# Altium footprint library WE-LAN 10G.PcbLib: 13 footprints
Each footprint in its own frame and in the unit in brackets; x right, y up, seen from the top. Pads: shape width x height; smd on the part's side, far side on the other; paste and mask are expansions set on the pad; w line width, h text height; cw(c..) or ccw(c..) is an arc to the next point about the centre after c.
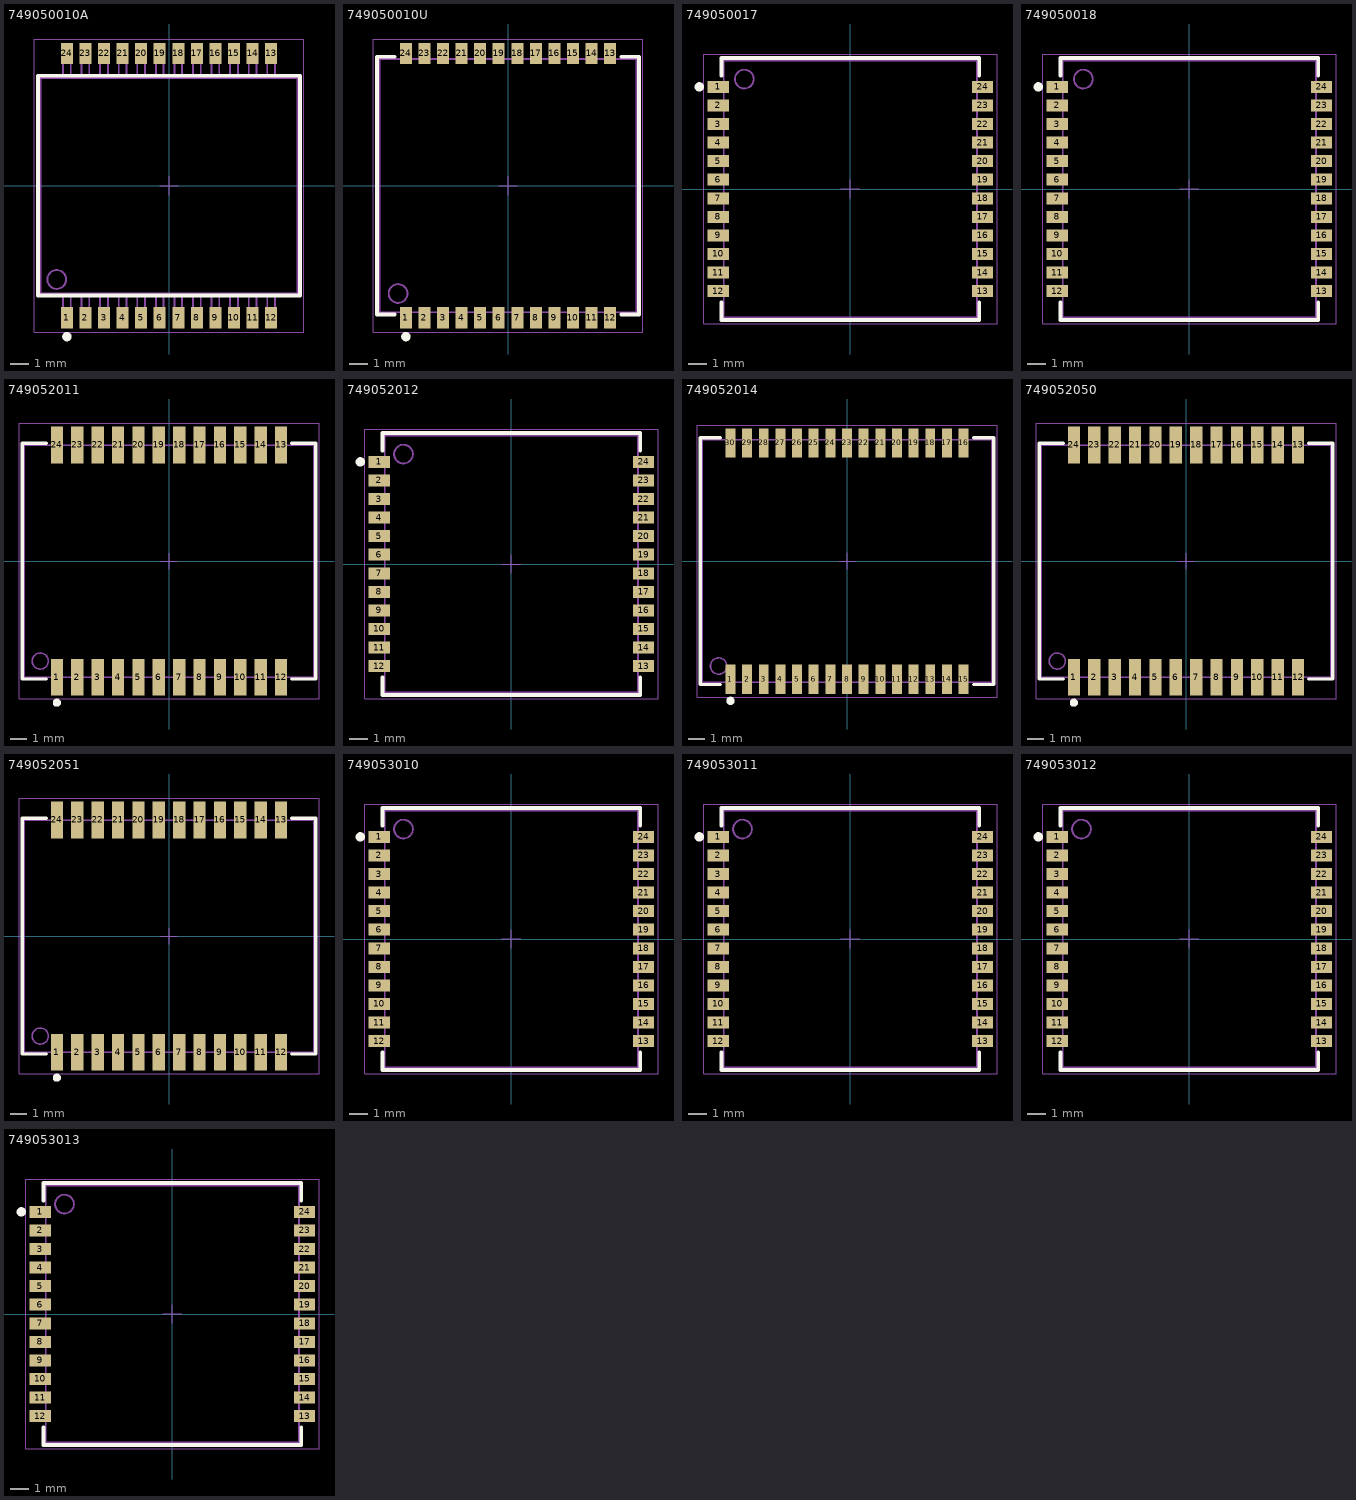
[diagram p0: the footprints below, top view; thin cyan lines are the x and y axes]

## 749050010A [mm] "LAN-Transformer 10G, body 13.97x13.97mm, 24-leads"
height 6.6
pads (24):
  rect 0.64x1.14 smd: 1(-5.445,-7.05) 2(-4.455,-7.05) 3(-3.465,-7.05) 4(-2.475,-7.05) 5(-1.485,-7.05) 6(-0.495,-7.05) 7(0.495,-7.05) 8(1.485,-7.05) 9(2.475,-7.05) 10(3.465,-7.05) 11(4.455,-7.05) 12(5.445,-7.05) 13(5.445,7.05) 14(4.455,7.05) 15(3.465,7.05) 16(2.475,7.05) 17(1.485,7.05) 18(0.495,7.05) 19(-0.495,7.05) 20(-1.485,7.05) 21(-2.475,7.05) 22(-3.465,7.05) 23(-4.455,7.05) 24(-5.445,7.05)
Top Overlay:
  circle w0.25: c-5.445,-8.05 r0.125
  lines w0.2: -6.985,-5.86 -6.985,5.86 6.985,5.86 6.985,-5.86 -6.985,-5.86
Top Designator:
  text ".Designator" at -7.498,-0.5 h1.5
Top Component Outline:
  circle w0.1: c-5.985,-5 r0.5
  lines w0.1: -5.65,-5.735 -5.65,-7.43 -5.24,-7.43 -5.24,-5.735 ; -5.65,5.735 -5.65,7.43 -5.24,7.43 -5.24,5.735 ; -4.66,-5.735 -4.66,-7.43 -4.25,-7.43 -4.25,-5.735 ; -4.66,5.735 -4.66,7.43 -4.25,7.43 -4.25,5.735 ; -3.67,-5.735 -3.67,-7.43 -3.26,-7.43 -3.26,-5.735 ; -3.67,5.735 -3.67,7.43 -3.26,7.43 -3.26,5.735 ; -2.68,-5.735 -2.68,-7.43 -2.27,-7.43 -2.27,-5.735 ; -2.68,5.735 -2.68,7.43 -2.27,7.43 -2.27,5.735 ; -1.69,-5.735 -1.69,-7.43 -1.28,-7.43 -1.28,-5.735 ; -1.69,5.735 -1.69,7.43 -1.28,7.43 -1.28,5.735 ; -0.7,-5.735 -0.7,-7.43 -0.29,-7.43 -0.29,-5.735 ; -0.7,5.735 -0.7,7.43 -0.29,7.43 -0.29,5.735 ; 0.29,-5.735 0.29,-7.43 0.7,-7.43 0.7,-5.735 ; 0.29,5.735 0.29,7.43 0.7,7.43 0.7,5.735 ; 1.28,-5.735 1.28,-7.43 1.69,-7.43 1.69,-5.735 ; 1.28,5.735 1.28,7.43 1.69,7.43 1.69,5.735 ; 2.27,-5.735 2.27,-7.43 2.68,-7.43 2.68,-5.735 ; 2.27,5.735 2.27,7.43 2.68,7.43 2.68,5.735 ; 3.26,-5.735 3.26,-7.43 3.67,-7.43 3.67,-5.735 ; 3.26,5.735 3.26,7.43 3.67,7.43 3.67,5.735 ; 4.25,-5.735 4.25,-7.43 4.66,-7.43 4.66,-5.735 ; 4.25,5.735 4.25,7.43 4.66,7.43 4.66,5.735 ; 5.24,-5.735 5.24,-7.43 5.65,-7.43 5.65,-5.735 ; 5.24,5.735 5.24,7.43 5.65,7.43 5.65,5.735 ; -6.86,-5.735 -6.86,5.735 6.86,5.735 6.86,-5.735 -6.86,-5.735
Top Courtyard:
  lines w0.05: -0.5,0 0.5,0 ; 0,-0.5 0,0.5 ; -7.185,-7.82 -7.185,7.82 7.185,7.82 7.185,-7.82 -7.185,-7.82
3D body "749050010A.stp": height 6.15, standoff 0, extent -6.985,-7.43 6.985,7.43

## 749050010U [mm] "LAN-Transformer 10G, body 13.97x13.97mm, 24-leads"
height 6.6
pads (24):
  rect 0.64x1.14 smd: 1(-5.445,-7.05) 2(-4.455,-7.05) 3(-3.465,-7.05) 4(-2.475,-7.05) 5(-1.485,-7.05) 6(-0.495,-7.05) 7(0.495,-7.05) 8(1.485,-7.05) 9(2.475,-7.05) 10(3.465,-7.05) 11(4.455,-7.05) 12(5.445,-7.05) 13(5.445,7.05) 14(4.455,7.05) 15(3.465,7.05) 16(2.475,7.05) 17(1.485,7.05) 18(0.495,7.05) 19(-0.495,7.05) 20(-1.485,7.05) 21(-2.475,7.05) 22(-3.465,7.05) 23(-4.455,7.05) 24(-5.445,7.05)
Top Overlay:
  circle w0.25: c-5.445,-8.05 r0.125
  lines w0.2: -6.05,-6.875 -6.985,-6.875 -6.985,6.875 -6.05,6.875 ; 6.05,-6.875 6.985,-6.875 6.985,6.875 6.05,6.875
Top Designator:
  text ".Designator" at -7.498,-0.5 h1.5
Top Component Outline:
  circle w0.1: c-5.86,-5.75 r0.5
  lines w0.1: -5.65,-6.75 -5.65,-7.43 -5.24,-7.43 -5.24,-6.75 ; -5.65,6.75 -5.65,7.43 -5.24,7.43 -5.24,6.75 ; -4.66,-6.75 -4.66,-7.43 -4.25,-7.43 -4.25,-6.75 ; -4.66,6.75 -4.66,7.43 -4.25,7.43 -4.25,6.75 ; -3.67,-6.75 -3.67,-7.43 -3.26,-7.43 -3.26,-6.75 ; -3.67,6.75 -3.67,7.43 -3.26,7.43 -3.26,6.75 ; -2.68,-6.75 -2.68,-7.43 -2.27,-7.43 -2.27,-6.75 ; -2.68,6.75 -2.68,7.43 -2.27,7.43 -2.27,6.75 ; -1.69,-6.75 -1.69,-7.43 -1.28,-7.43 -1.28,-6.75 ; -1.69,6.75 -1.69,7.43 -1.28,7.43 -1.28,6.75 ; -0.7,-6.75 -0.7,-7.43 -0.29,-7.43 -0.29,-6.75 ; -0.7,6.75 -0.7,7.43 -0.29,7.43 -0.29,6.75 ; 0.29,-6.75 0.29,-7.43 0.7,-7.43 0.7,-6.75 ; 0.29,6.75 0.29,7.43 0.7,7.43 0.7,6.75 ; 1.28,-6.75 1.28,-7.43 1.69,-7.43 1.69,-6.75 ; 1.28,6.75 1.28,7.43 1.69,7.43 1.69,6.75 ; 2.27,-6.75 2.27,-7.43 2.68,-7.43 2.68,-6.75 ; 2.27,6.75 2.27,7.43 2.68,7.43 2.68,6.75 ; 3.26,-6.75 3.26,-7.43 3.67,-7.43 3.67,-6.75 ; 3.26,6.75 3.26,7.43 3.67,7.43 3.67,6.75 ; 4.25,-6.75 4.25,-7.43 4.66,-7.43 4.66,-6.75 ; 4.25,6.75 4.25,7.43 4.66,7.43 4.66,6.75 ; 5.24,-6.75 5.24,-7.43 5.65,-7.43 5.65,-6.75 ; 5.24,6.75 5.24,7.43 5.65,7.43 5.65,6.75 ; -6.86,-6.75 6.86,-6.75 6.86,6.75 -6.86,6.75 -6.86,-6.75
Top Courtyard:
  lines w0.05: -0.5,0 0.5,0 ; 0,-0.5 0,0.5 ; -7.185,-7.82 7.185,-7.82 7.185,7.82 -7.185,7.82 -7.185,-7.82
3D body "749050010U.stp": height 6.6, standoff 0, extent -6.985,-7.41 6.985,7.41

## 749050017 [mm] "LAN-Transformer 10G, body 13.5x13.72mm, 24-leads"
height 6.6
pads (24):
  rect 1.14x0.64 smd: 1(-7.05,5.445) 2(-7.05,4.455) 3(-7.05,3.465) 4(-7.05,2.475) 5(-7.05,1.485) 6(-7.05,0.495) 7(-7.05,-0.495) 8(-7.05,-1.485) 9(-7.05,-2.475) 10(-7.05,-3.465) 11(-7.05,-4.455) 12(-7.05,-5.445) 13(7.05,-5.445) 14(7.05,-4.455) 15(7.05,-3.465) 16(7.05,-2.475) 17(7.05,-1.485) 18(7.05,-0.495) 19(7.05,0.495) 20(7.05,1.485) 21(7.05,2.475) 22(7.05,3.465) 23(7.05,4.455) 24(7.05,5.445)
Top Overlay:
  circle w0.25: c-8.05,5.445 r0.125
  lines w0.2: -6.875,-6.05 -6.875,-6.985 6.875,-6.985 6.875,-6.05 ; -6.875,6.05 -6.875,6.985 6.875,6.985 6.875,6.05
Top Designator:
  text ".Designator" at -7.498,-0.5 h1.5
Top Component Outline:
  circle w0.1: c-5.65,5.86 r0.5
  lines w0.1: -6.75,-5.65 -7.43,-5.65 -7.43,-5.24 -6.75,-5.24 ; -6.75,-4.66 -7.43,-4.66 -7.43,-4.25 -6.75,-4.25 ; -6.75,-3.67 -7.43,-3.67 -7.43,-3.26 -6.75,-3.26 ; -6.75,-2.68 -7.43,-2.68 -7.43,-2.27 -6.75,-2.27 ; -6.75,-1.69 -7.43,-1.69 -7.43,-1.28 -6.75,-1.28 ; -6.75,-0.7 -7.43,-0.7 -7.43,-0.29 -6.75,-0.29 ; -6.75,0.29 -7.43,0.29 -7.43,0.7 -6.75,0.7 ; -6.75,1.28 -7.43,1.28 -7.43,1.69 -6.75,1.69 ; -6.75,2.27 -7.43,2.27 -7.43,2.68 -6.75,2.68 ; -6.75,3.26 -7.43,3.26 -7.43,3.67 -6.75,3.67 ; -6.75,4.25 -7.43,4.25 -7.43,4.66 -6.75,4.66 ; -6.75,5.24 -7.43,5.24 -7.43,5.65 -6.75,5.65 ; 6.75,-5.65 7.43,-5.65 7.43,-5.24 6.75,-5.24 ; 6.75,-4.66 7.43,-4.66 7.43,-4.25 6.75,-4.25 ; 6.75,-3.67 7.43,-3.67 7.43,-3.26 6.75,-3.26 ; 6.75,-2.68 7.43,-2.68 7.43,-2.27 6.75,-2.27 ; 6.75,-1.69 7.43,-1.69 7.43,-1.28 6.75,-1.28 ; 6.75,-0.7 7.43,-0.7 7.43,-0.29 6.75,-0.29 ; 6.75,0.29 7.43,0.29 7.43,0.7 6.75,0.7 ; 6.75,1.28 7.43,1.28 7.43,1.69 6.75,1.69 ; 6.75,2.27 7.43,2.27 7.43,2.68 6.75,2.68 ; 6.75,3.26 7.43,3.26 7.43,3.67 6.75,3.67 ; 6.75,4.25 7.43,4.25 7.43,4.66 6.75,4.66 ; 6.75,5.24 7.43,5.24 7.43,5.65 6.75,5.65 ; -6.75,-6.86 -6.75,6.86 6.75,6.86 6.75,-6.86 -6.75,-6.86
Top Courtyard:
  lines w0.05: -0.5,0 0.5,0 ; 0,-0.5 0,0.5 ; -7.82,-7.185 -7.82,7.185 7.82,7.185 7.82,-7.185 -7.82,-7.185
3D body "749050017.stp": height 6.6, standoff 0, extent -7.605,-6.985 7.505,6.985

## 749050018 [mm] "LAN-Transformer 10G, body 13.5x13.72mm, 24-leads"
height 6.6
pads (24):
  rect 1.14x0.64 smd: 1(-7.05,5.445) 2(-7.05,4.455) 3(-7.05,3.465) 4(-7.05,2.475) 5(-7.05,1.485) 6(-7.05,0.495) 7(-7.05,-0.495) 8(-7.05,-1.485) 9(-7.05,-2.475) 10(-7.05,-3.465) 11(-7.05,-4.455) 12(-7.05,-5.445) 13(7.05,-5.445) 14(7.05,-4.455) 15(7.05,-3.465) 16(7.05,-2.475) 17(7.05,-1.485) 18(7.05,-0.495) 19(7.05,0.495) 20(7.05,1.485) 21(7.05,2.475) 22(7.05,3.465) 23(7.05,4.455) 24(7.05,5.445)
Top Overlay:
  circle w0.25: c-8.05,5.445 r0.125
  lines w0.2: -6.875,-6.05 -6.875,-6.985 6.875,-6.985 6.875,-6.05 ; -6.875,6.05 -6.875,6.985 6.875,6.985 6.875,6.05
Top Designator:
  text ".Designator" at -7.498,-0.5 h1.5
Top Component Outline:
  circle w0.1: c-5.65,5.86 r0.5
  lines w0.1: -6.75,-5.65 -7.43,-5.65 -7.43,-5.24 -6.75,-5.24 ; -6.75,-4.66 -7.43,-4.66 -7.43,-4.25 -6.75,-4.25 ; -6.75,-3.67 -7.43,-3.67 -7.43,-3.26 -6.75,-3.26 ; -6.75,-2.68 -7.43,-2.68 -7.43,-2.27 -6.75,-2.27 ; -6.75,-1.69 -7.43,-1.69 -7.43,-1.28 -6.75,-1.28 ; -6.75,-0.7 -7.43,-0.7 -7.43,-0.29 -6.75,-0.29 ; -6.75,0.29 -7.43,0.29 -7.43,0.7 -6.75,0.7 ; -6.75,1.28 -7.43,1.28 -7.43,1.69 -6.75,1.69 ; -6.75,2.27 -7.43,2.27 -7.43,2.68 -6.75,2.68 ; -6.75,3.26 -7.43,3.26 -7.43,3.67 -6.75,3.67 ; -6.75,4.25 -7.43,4.25 -7.43,4.66 -6.75,4.66 ; -6.75,5.24 -7.43,5.24 -7.43,5.65 -6.75,5.65 ; 6.75,-5.65 7.43,-5.65 7.43,-5.24 6.75,-5.24 ; 6.75,-4.66 7.43,-4.66 7.43,-4.25 6.75,-4.25 ; 6.75,-3.67 7.43,-3.67 7.43,-3.26 6.75,-3.26 ; 6.75,-2.68 7.43,-2.68 7.43,-2.27 6.75,-2.27 ; 6.75,-1.69 7.43,-1.69 7.43,-1.28 6.75,-1.28 ; 6.75,-0.7 7.43,-0.7 7.43,-0.29 6.75,-0.29 ; 6.75,0.29 7.43,0.29 7.43,0.7 6.75,0.7 ; 6.75,1.28 7.43,1.28 7.43,1.69 6.75,1.69 ; 6.75,2.27 7.43,2.27 7.43,2.68 6.75,2.68 ; 6.75,3.26 7.43,3.26 7.43,3.67 6.75,3.67 ; 6.75,4.25 7.43,4.25 7.43,4.66 6.75,4.66 ; 6.75,5.24 7.43,5.24 7.43,5.65 6.75,5.65 ; -6.75,-6.86 6.75,-6.86 6.75,6.86 -6.75,6.86 -6.75,-6.86
Top Courtyard:
  lines w0.05: -0.5,0 0.5,0 ; 0,-0.5 0,0.5 ; -7.82,-7.185 7.82,-7.185 7.82,7.185 -7.82,7.185 -7.82,-7.185
3D body "749050018.stp": height 6.6, standoff 0, extent -7.605,-6.985 7.505,6.985

## 749052011 [mm] "LAN-Transformer 10G, body 18.04x14.45mm, 24-leads"
height 7.45
pads (24):
  rect 0.76x2.29 smd: 1(-6.985,-7.24) 2(-5.715,-7.24) 3(-4.445,-7.24) 4(-3.175,-7.24) 5(-1.905,-7.24) 6(-0.635,-7.24) 7(0.635,-7.24) 8(1.905,-7.24) 9(3.175,-7.24) 10(4.445,-7.24) 11(5.715,-7.24) 12(6.985,-7.24) 13(6.985,7.24) 14(5.715,7.24) 15(4.445,7.24) 16(3.175,7.24) 17(1.905,7.24) 18(0.635,7.24) 19(-0.635,7.24) 20(-1.905,7.24) 21(-3.175,7.24) 22(-4.445,7.24) 23(-5.715,7.24) 24(-6.985,7.24)
Top Overlay:
  circle w0.25: c-6.985,-8.815 r0.125
  lines w0.2: -7.65,-7.35 -9.145,-7.35 -9.145,7.35 -7.65,7.35 ; 7.65,-7.35 9.145,-7.35 9.145,7.35 7.65,7.35
Top Designator:
  text ".Designator" at -7.498,-0.5 h1.5
Top Component Outline:
  circle w0.1: c-8.02,-6.225 r0.5
  lines w0.1: -7.24,-7.225 -7.24,-8 -6.73,-8 -6.73,-7.225 ; -7.24,7.225 -7.24,8 -6.73,8 -6.73,7.225 ; -5.97,-7.225 -5.97,-8 -5.46,-8 -5.46,-7.225 ; -5.97,7.225 -5.97,8 -5.46,8 -5.46,7.225 ; -4.7,-7.225 -4.7,-8 -4.19,-8 -4.19,-7.225 ; -4.7,7.225 -4.7,8 -4.19,8 -4.19,7.225 ; -3.43,-7.225 -3.43,-8 -2.92,-8 -2.92,-7.225 ; -3.43,7.225 -3.43,8 -2.92,8 -2.92,7.225 ; -2.16,-7.225 -2.16,-8 -1.65,-8 -1.65,-7.225 ; -2.16,7.225 -2.16,8 -1.65,8 -1.65,7.225 ; -0.89,-7.225 -0.89,-8 -0.38,-8 -0.38,-7.225 ; -0.89,7.225 -0.89,8 -0.38,8 -0.38,7.225 ; 0.38,-7.225 0.38,-8 0.89,-8 0.89,-7.225 ; 0.38,7.225 0.38,8 0.89,8 0.89,7.225 ; 1.65,-7.225 1.65,-8 2.16,-8 2.16,-7.225 ; 1.65,7.225 1.65,8 2.16,8 2.16,7.225 ; 2.92,-7.225 2.92,-8 3.43,-8 3.43,-7.225 ; 2.92,7.225 2.92,8 3.43,8 3.43,7.225 ; 4.19,-7.225 4.19,-8 4.7,-8 4.7,-7.225 ; 4.19,7.225 4.19,8 4.7,8 4.7,7.225 ; 5.46,-7.225 5.46,-8 5.97,-8 5.97,-7.225 ; 5.46,7.225 5.46,8 5.97,8 5.97,7.225 ; 6.73,-7.225 6.73,-8 7.24,-8 7.24,-7.225 ; 6.73,7.225 6.73,8 7.24,8 7.24,7.225 ; -9.02,-7.225 9.02,-7.225 9.02,7.225 -9.02,7.225 -9.02,-7.225
Top Courtyard:
  lines w0.05: -0.5,0 0.5,0 ; 0,-0.5 0,0.5 ; -9.345,-8.585 -9.345,8.585 9.345,8.585 9.345,-8.585 -9.345,-8.585
3D body "749052011.stp": height 7.2, standoff 0, extent -9.145,-8 9.145,8

## 749052012 [mm] "LAN-Transformer 10G, body 13.5x13.72mm, 24-leads"
height 6.6
pads (24):
  rect 1.14x0.64 smd: 1(-7.05,5.445) 2(-7.05,4.455) 3(-7.05,3.465) 4(-7.05,2.475) 5(-7.05,1.485) 6(-7.05,0.495) 7(-7.05,-0.495) 8(-7.05,-1.485) 9(-7.05,-2.475) 10(-7.05,-3.465) 11(-7.05,-4.455) 12(-7.05,-5.445) 13(7.05,-5.445) 14(7.05,-4.455) 15(7.05,-3.465) 16(7.05,-2.475) 17(7.05,-1.485) 18(7.05,-0.495) 19(7.05,0.495) 20(7.05,1.485) 21(7.05,2.475) 22(7.05,3.465) 23(7.05,4.455) 24(7.05,5.445)
Top Overlay:
  circle w0.25: c-8.05,5.445 r0.125
  lines w0.2: -6.875,-6.05 -6.875,-6.985 6.875,-6.985 6.875,-6.05 ; -6.875,6.05 -6.875,6.985 6.875,6.985 6.875,6.05
Top Designator:
  text ".Designator" at -7.498,-0.5 h1.5
Top Component Outline:
  circle w0.1: c-5.75,5.86 r0.5
  lines w0.1: -6.75,-5.65 -7.43,-5.65 -7.43,-5.24 -6.75,-5.24 ; -6.75,-4.66 -7.43,-4.66 -7.43,-4.25 -6.75,-4.25 ; -6.75,-3.67 -7.43,-3.67 -7.43,-3.26 -6.75,-3.26 ; -6.75,-2.68 -7.43,-2.68 -7.43,-2.27 -6.75,-2.27 ; -6.75,-1.69 -7.43,-1.69 -7.43,-1.28 -6.75,-1.28 ; -6.75,-0.7 -7.43,-0.7 -7.43,-0.29 -6.75,-0.29 ; -6.75,0.29 -7.43,0.29 -7.43,0.7 -6.75,0.7 ; -6.75,1.28 -7.43,1.28 -7.43,1.69 -6.75,1.69 ; -6.75,2.27 -7.43,2.27 -7.43,2.68 -6.75,2.68 ; -6.75,3.26 -7.43,3.26 -7.43,3.67 -6.75,3.67 ; -6.75,4.25 -7.43,4.25 -7.43,4.66 -6.75,4.66 ; -6.75,5.24 -7.43,5.24 -7.43,5.65 -6.75,5.65 ; 6.75,-5.65 7.43,-5.65 7.43,-5.24 6.75,-5.24 ; 6.75,-4.66 7.43,-4.66 7.43,-4.25 6.75,-4.25 ; 6.75,-3.67 7.43,-3.67 7.43,-3.26 6.75,-3.26 ; 6.75,-2.68 7.43,-2.68 7.43,-2.27 6.75,-2.27 ; 6.75,-1.69 7.43,-1.69 7.43,-1.28 6.75,-1.28 ; 6.75,-0.7 7.43,-0.7 7.43,-0.29 6.75,-0.29 ; 6.75,0.29 7.43,0.29 7.43,0.7 6.75,0.7 ; 6.75,1.28 7.43,1.28 7.43,1.69 6.75,1.69 ; 6.75,2.27 7.43,2.27 7.43,2.68 6.75,2.68 ; 6.75,3.26 7.43,3.26 7.43,3.67 6.75,3.67 ; 6.75,4.25 7.43,4.25 7.43,4.66 6.75,4.66 ; 6.75,5.24 7.43,5.24 7.43,5.65 6.75,5.65 ; -6.75,-6.86 -6.75,6.86 6.75,6.86 6.75,-6.86 -6.75,-6.86
Top Courtyard:
  lines w0.05: -0.5,0 0.5,0 ; 0,-0.5 0,0.5 ; -7.82,-7.185 -7.82,7.185 7.82,7.185 7.82,-7.185 -7.82,-7.185
3D body "749052012.stp": height 6.6, standoff 0, extent -7.555,-6.985 7.555,6.985

## 749052014 [mm] "LAN-Transformer 10G, body 17.73x14.86mm, 30-leads"
height 7.49
pads (30):
  rect 0.61x1.78 smd: 1(-7.14,-7.24) 2(-6.12,-7.24) 3(-5.1,-7.24) 4(-4.08,-7.24) 5(-3.06,-7.24) 6(-2.04,-7.24) 7(-1.02,-7.24) 8(0,-7.24) 9(1.02,-7.24) 10(2.04,-7.24) 11(3.06,-7.24) 12(4.08,-7.24) 13(5.1,-7.24) 14(6.12,-7.24) 15(7.14,-7.24) 16(7.14,7.24) 17(6.12,7.24) 18(5.1,7.24) 19(4.08,7.24) 20(3.06,7.24) 21(2.04,7.24) 22(1.02,7.24) 23(0,7.24) 24(-1.02,7.24) 25(-2.04,7.24) 26(-3.06,7.24) 27(-4.08,7.24) 28(-5.1,7.24) 29(-6.12,7.24) 30(-7.14,7.24)
Top Overlay:
  circle w0.25: c-7.14,-8.56 r0.125
  lines w0.2: -7.75,-7.555 -8.99,-7.555 -8.99,7.555 -7.75,7.555 ; 7.75,-7.555 8.99,-7.555 8.99,7.555 7.75,7.555
Top Designator:
  text ".Designator" at -7.498,-0.5 h1.5
Top Component Outline:
  circle w0.1: c-7.865,-6.43 r0.5
  lines w0.1: -8.865,-7.43 -8.865,7.43 8.865,7.43 8.865,-7.43 -8.865,-7.43
Top Courtyard:
  lines w0.05: -0.5,0 0.5,0 ; 0,-0.5 0,0.5 ; -9.19,-8.33 -9.19,8.33 9.19,8.33 9.19,-8.33 -9.19,-8.33
3D body "749052014.stp": height 7.25, standoff 0.01, extent -8.865,-7.62 8.865,7.62

## 749052050 [mm] "LAN-Transformer 10G, body 18.04x14.45mm, 24-leads"
height 9.05
pads (24):
  rect 0.76x2.29 smd: 1(-6.985,-7.24) 2(-5.715,-7.24) 3(-4.445,-7.24) 4(-3.175,-7.24) 5(-1.905,-7.24) 6(-0.635,-7.24) 7(0.635,-7.24) 8(1.905,-7.24) 9(3.175,-7.24) 10(4.445,-7.24) 11(5.715,-7.24) 12(6.985,-7.24) 13(6.985,7.24) 14(5.715,7.24) 15(4.445,7.24) 16(3.175,7.24) 17(1.905,7.24) 18(0.635,7.24) 19(-0.635,7.24) 20(-1.905,7.24) 21(-3.175,7.24) 22(-4.445,7.24) 23(-5.715,7.24) 24(-6.985,7.24)
Top Overlay:
  circle w0.25: c-6.985,-8.815 r0.125
  lines w0.2: -7.65,-7.35 -9.145,-7.35 -9.145,7.35 -7.65,7.35 ; 7.65,-7.35 9.145,-7.35 9.145,7.35 7.65,7.35
Top Designator:
  text ".Designator" at -7.498,-0.5 h1.5
Top Component Outline:
  circle w0.1: c-8.02,-6.225 r0.5
  lines w0.1: -7.24,-7.225 -7.24,-8.1 -6.73,-8.1 -6.73,-7.225 ; -7.24,7.225 -7.24,8.1 -6.73,8.1 -6.73,7.225 ; -5.97,-7.225 -5.97,-8.1 -5.46,-8.1 -5.46,-7.225 ; -5.97,7.225 -5.97,8.1 -5.46,8.1 -5.46,7.225 ; -4.7,-7.225 -4.7,-8.1 -4.19,-8.1 -4.19,-7.225 ; -4.7,7.225 -4.7,8.1 -4.19,8.1 -4.19,7.225 ; -3.43,-7.225 -3.43,-8.1 -2.92,-8.1 -2.92,-7.225 ; -3.43,7.225 -3.43,8.1 -2.92,8.1 -2.92,7.225 ; -2.16,-7.225 -2.16,-8.1 -1.65,-8.1 -1.65,-7.225 ; -2.16,7.225 -2.16,8.1 -1.65,8.1 -1.65,7.225 ; -0.89,-7.225 -0.89,-8.1 -0.38,-8.1 -0.38,-7.225 ; -0.89,7.225 -0.89,8.1 -0.38,8.1 -0.38,7.225 ; 0.38,-7.225 0.38,-8.1 0.89,-8.1 0.89,-7.225 ; 0.38,7.225 0.38,8.1 0.89,8.1 0.89,7.225 ; 1.65,-7.225 1.65,-8.1 2.16,-8.1 2.16,-7.225 ; 1.65,7.225 1.65,8.1 2.16,8.1 2.16,7.225 ; 2.92,-7.225 2.92,-8.1 3.43,-8.1 3.43,-7.225 ; 2.92,7.225 2.92,8.1 3.43,8.1 3.43,7.225 ; 4.19,-7.225 4.19,-8.1 4.7,-8.1 4.7,-7.225 ; 4.19,7.225 4.19,8.1 4.7,8.1 4.7,7.225 ; 5.46,-7.225 5.46,-8.1 5.97,-8.1 5.97,-7.225 ; 5.46,7.225 5.46,8.1 5.97,8.1 5.97,7.225 ; 6.73,-7.225 6.73,-8.1 7.24,-8.1 7.24,-7.225 ; 6.73,7.225 6.73,8.1 7.24,8.1 7.24,7.225 ; -9.02,-7.225 9.02,-7.225 9.02,7.225 -9.02,7.225 -9.02,-7.225
Top Courtyard:
  lines w0.05: -0.5,0 0.5,0 ; 0,-0.5 0,0.5 ; -9.345,-8.585 9.345,-8.585 9.345,8.585 -9.345,8.585 -9.345,-8.585
3D body "749052050.stp": height 8.8, standoff 0, extent -9.145,-8.08 9.145,8.08

## 749052051 [mm] "LAN-Transformer 10G, body 18.04x14.45mm, 24-leads"
height 9.05
pads (24):
  rect 0.76x2.29 smd: 1(-6.985,-7.24) 2(-5.715,-7.24) 3(-4.445,-7.24) 4(-3.175,-7.24) 5(-1.905,-7.24) 6(-0.635,-7.24) 7(0.635,-7.24) 8(1.905,-7.24) 9(3.175,-7.24) 10(4.445,-7.24) 11(5.715,-7.24) 12(6.985,-7.24) 13(6.985,7.24) 14(5.715,7.24) 15(4.445,7.24) 16(3.175,7.24) 17(1.905,7.24) 18(0.635,7.24) 19(-0.635,7.24) 20(-1.905,7.24) 21(-3.175,7.24) 22(-4.445,7.24) 23(-5.715,7.24) 24(-6.985,7.24)
Top Overlay:
  circle w0.25: c-6.985,-8.815 r0.125
  lines w0.2: -7.65,-7.35 -9.145,-7.35 -9.145,7.35 -7.65,7.35 ; 7.65,-7.35 9.145,-7.35 9.145,7.35 7.65,7.35
Top Designator:
  text ".Designator" at -7.498,-0.5 h1.5
Top Component Outline:
  circle w0.1: c-8.02,-6.225 r0.5
  lines w0.1: -7.24,-7.225 -7.24,-8.1 -6.73,-8.1 -6.73,-7.225 ; -7.24,7.225 -7.24,8.1 -6.73,8.1 -6.73,7.225 ; -5.97,-7.225 -5.97,-8.1 -5.46,-8.1 -5.46,-7.225 ; -5.97,7.225 -5.97,8.1 -5.46,8.1 -5.46,7.225 ; -4.7,-7.225 -4.7,-8.1 -4.19,-8.1 -4.19,-7.225 ; -4.7,7.225 -4.7,8.1 -4.19,8.1 -4.19,7.225 ; -3.43,-7.225 -3.43,-8.1 -2.92,-8.1 -2.92,-7.225 ; -3.43,7.225 -3.43,8.1 -2.92,8.1 -2.92,7.225 ; -2.16,-7.225 -2.16,-8.1 -1.65,-8.1 -1.65,-7.225 ; -2.16,7.225 -2.16,8.1 -1.65,8.1 -1.65,7.225 ; -0.89,-7.225 -0.89,-8.1 -0.38,-8.1 -0.38,-7.225 ; -0.89,7.225 -0.89,8.1 -0.38,8.1 -0.38,7.225 ; 0.38,-7.225 0.38,-8.1 0.89,-8.1 0.89,-7.225 ; 0.38,7.225 0.38,8.1 0.89,8.1 0.89,7.225 ; 1.65,-7.225 1.65,-8.1 2.16,-8.1 2.16,-7.225 ; 1.65,7.225 1.65,8.1 2.16,8.1 2.16,7.225 ; 2.92,-7.225 2.92,-8.1 3.43,-8.1 3.43,-7.225 ; 2.92,7.225 2.92,8.1 3.43,8.1 3.43,7.225 ; 4.19,-7.225 4.19,-8.1 4.7,-8.1 4.7,-7.225 ; 4.19,7.225 4.19,8.1 4.7,8.1 4.7,7.225 ; 5.46,-7.225 5.46,-8.1 5.97,-8.1 5.97,-7.225 ; 5.46,7.225 5.46,8.1 5.97,8.1 5.97,7.225 ; 6.73,-7.225 6.73,-8.1 7.24,-8.1 7.24,-7.225 ; 6.73,7.225 6.73,8.1 7.24,8.1 7.24,7.225 ; -9.02,-7.225 9.02,-7.225 9.02,7.225 -9.02,7.225 -9.02,-7.225
Top Courtyard:
  lines w0.05: -0.5,0 0.5,0 ; 0,-0.5 0,0.5 ; -9.345,-8.585 9.345,-8.585 9.345,8.585 -9.345,8.585 -9.345,-8.585
3D body "749052051.stp": height 8.8, standoff 0, extent -9.145,-8.08 9.145,8.08

## 749053010 [mm] "LAN-Transformer 10G, body 13.5x13.72mm, 24-leads"
height 6.6
pads (24):
  rect 1.14x0.64 smd: 1(-7.05,5.445) 2(-7.05,4.455) 3(-7.05,3.465) 4(-7.05,2.475) 5(-7.05,1.485) 6(-7.05,0.495) 7(-7.05,-0.495) 8(-7.05,-1.485) 9(-7.05,-2.475) 10(-7.05,-3.465) 11(-7.05,-4.455) 12(-7.05,-5.445) 13(7.05,-5.445) 14(7.05,-4.455) 15(7.05,-3.465) 16(7.05,-2.475) 17(7.05,-1.485) 18(7.05,-0.495) 19(7.05,0.495) 20(7.05,1.485) 21(7.05,2.475) 22(7.05,3.465) 23(7.05,4.455) 24(7.05,5.445)
Top Overlay:
  circle w0.25: c-8.05,5.445 r0.125
  lines w0.2: -6.875,-6.05 -6.875,-6.985 6.875,-6.985 6.875,-6.05 ; -6.875,6.05 -6.875,6.985 6.875,6.985 6.875,6.05
Top Designator:
  text ".Designator" at -7.498,-0.5 h1.5
Top Component Outline:
  circle w0.1: c-5.75,5.86 r0.5
  lines w0.1: -6.75,-5.65 -7.43,-5.65 -7.43,-5.24 -6.75,-5.24 ; -6.75,-4.66 -7.43,-4.66 -7.43,-4.25 -6.75,-4.25 ; -6.75,-3.67 -7.43,-3.67 -7.43,-3.26 -6.75,-3.26 ; -6.75,-2.68 -7.43,-2.68 -7.43,-2.27 -6.75,-2.27 ; -6.75,-1.69 -7.43,-1.69 -7.43,-1.28 -6.75,-1.28 ; -6.75,-0.7 -7.43,-0.7 -7.43,-0.29 -6.75,-0.29 ; -6.75,0.29 -7.43,0.29 -7.43,0.7 -6.75,0.7 ; -6.75,1.28 -7.43,1.28 -7.43,1.69 -6.75,1.69 ; -6.75,2.27 -7.43,2.27 -7.43,2.68 -6.75,2.68 ; -6.75,3.26 -7.43,3.26 -7.43,3.67 -6.75,3.67 ; -6.75,4.25 -7.43,4.25 -7.43,4.66 -6.75,4.66 ; -6.75,5.24 -7.43,5.24 -7.43,5.65 -6.75,5.65 ; 6.75,-5.65 7.43,-5.65 7.43,-5.24 6.75,-5.24 ; 6.75,-4.66 7.43,-4.66 7.43,-4.25 6.75,-4.25 ; 6.75,-3.67 7.43,-3.67 7.43,-3.26 6.75,-3.26 ; 6.75,-2.68 7.43,-2.68 7.43,-2.27 6.75,-2.27 ; 6.75,-1.69 7.43,-1.69 7.43,-1.28 6.75,-1.28 ; 6.75,-0.7 7.43,-0.7 7.43,-0.29 6.75,-0.29 ; 6.75,0.29 7.43,0.29 7.43,0.7 6.75,0.7 ; 6.75,1.28 7.43,1.28 7.43,1.69 6.75,1.69 ; 6.75,2.27 7.43,2.27 7.43,2.68 6.75,2.68 ; 6.75,3.26 7.43,3.26 7.43,3.67 6.75,3.67 ; 6.75,4.25 7.43,4.25 7.43,4.66 6.75,4.66 ; 6.75,5.24 7.43,5.24 7.43,5.65 6.75,5.65 ; -6.75,-6.86 -6.75,6.86 6.75,6.86 6.75,-6.86 -6.75,-6.86
Top Courtyard:
  lines w0.05: -0.5,0 0.5,0 ; 0,-0.5 0,0.5 ; -7.82,-7.185 -7.82,7.185 7.82,7.185 7.82,-7.185 -7.82,-7.185
3D body "749053010.stp": height 6.2, standoff 0, extent -7.45,-6.85 7.45,6.85

## 749053011 [mm] "LAN-Transformer 10G, body 13.5x13.72mm, 24-leads"
height 6.6
pads (24):
  rect 1.14x0.64 smd: 1(-7.05,5.445) 2(-7.05,4.455) 3(-7.05,3.465) 4(-7.05,2.475) 5(-7.05,1.485) 6(-7.05,0.495) 7(-7.05,-0.495) 8(-7.05,-1.485) 9(-7.05,-2.475) 10(-7.05,-3.465) 11(-7.05,-4.455) 12(-7.05,-5.445) 13(7.05,-5.445) 14(7.05,-4.455) 15(7.05,-3.465) 16(7.05,-2.475) 17(7.05,-1.485) 18(7.05,-0.495) 19(7.05,0.495) 20(7.05,1.485) 21(7.05,2.475) 22(7.05,3.465) 23(7.05,4.455) 24(7.05,5.445)
Top Overlay:
  circle w0.25: c-8.05,5.445 r0.125
  lines w0.2: -6.875,-6.05 -6.875,-6.985 6.875,-6.985 6.875,-6.05 ; -6.875,6.05 -6.875,6.985 6.875,6.985 6.875,6.05
Top Designator:
  text ".Designator" at -7.498,-0.5 h1.5
Top Component Outline:
  circle w0.1: c-5.75,5.86 r0.5
  lines w0.1: -6.75,-5.65 -7.43,-5.65 -7.43,-5.24 -6.75,-5.24 ; -6.75,-4.66 -7.43,-4.66 -7.43,-4.25 -6.75,-4.25 ; -6.75,-3.67 -7.43,-3.67 -7.43,-3.26 -6.75,-3.26 ; -6.75,-2.68 -7.43,-2.68 -7.43,-2.27 -6.75,-2.27 ; -6.75,-1.69 -7.43,-1.69 -7.43,-1.28 -6.75,-1.28 ; -6.75,-0.7 -7.43,-0.7 -7.43,-0.29 -6.75,-0.29 ; -6.75,0.29 -7.43,0.29 -7.43,0.7 -6.75,0.7 ; -6.75,1.28 -7.43,1.28 -7.43,1.69 -6.75,1.69 ; -6.75,2.27 -7.43,2.27 -7.43,2.68 -6.75,2.68 ; -6.75,3.26 -7.43,3.26 -7.43,3.67 -6.75,3.67 ; -6.75,4.25 -7.43,4.25 -7.43,4.66 -6.75,4.66 ; -6.75,5.24 -7.43,5.24 -7.43,5.65 -6.75,5.65 ; 6.75,-5.65 7.43,-5.65 7.43,-5.24 6.75,-5.24 ; 6.75,-4.66 7.43,-4.66 7.43,-4.25 6.75,-4.25 ; 6.75,-3.67 7.43,-3.67 7.43,-3.26 6.75,-3.26 ; 6.75,-2.68 7.43,-2.68 7.43,-2.27 6.75,-2.27 ; 6.75,-1.69 7.43,-1.69 7.43,-1.28 6.75,-1.28 ; 6.75,-0.7 7.43,-0.7 7.43,-0.29 6.75,-0.29 ; 6.75,0.29 7.43,0.29 7.43,0.7 6.75,0.7 ; 6.75,1.28 7.43,1.28 7.43,1.69 6.75,1.69 ; 6.75,2.27 7.43,2.27 7.43,2.68 6.75,2.68 ; 6.75,3.26 7.43,3.26 7.43,3.67 6.75,3.67 ; 6.75,4.25 7.43,4.25 7.43,4.66 6.75,4.66 ; 6.75,5.24 7.43,5.24 7.43,5.65 6.75,5.65 ; -6.75,-6.86 6.75,-6.86 6.75,6.86 -6.75,6.86 -6.75,-6.86
Top Courtyard:
  lines w0.05: -0.5,0 0.5,0 ; 0,-0.5 0,0.5 ; -7.82,-7.185 7.82,-7.185 7.82,7.185 -7.82,7.185 -7.82,-7.185
3D body "749053011.stp": height 6.6, standoff 0, extent -7.555,-6.85 7.555,6.85

## 749053012 [mm] "LAN-Transformer 10G, body 13.5x13.72mm, 24-leads"
height 6.6
pads (24):
  rect 1.14x0.64 smd: 1(-7.05,5.445) 2(-7.05,4.455) 3(-7.05,3.465) 4(-7.05,2.475) 5(-7.05,1.485) 6(-7.05,0.495) 7(-7.05,-0.495) 8(-7.05,-1.485) 9(-7.05,-2.475) 10(-7.05,-3.465) 11(-7.05,-4.455) 12(-7.05,-5.445) 13(7.05,-5.445) 14(7.05,-4.455) 15(7.05,-3.465) 16(7.05,-2.475) 17(7.05,-1.485) 18(7.05,-0.495) 19(7.05,0.495) 20(7.05,1.485) 21(7.05,2.475) 22(7.05,3.465) 23(7.05,4.455) 24(7.05,5.445)
Top Overlay:
  circle w0.25: c-8.05,5.445 r0.125
  lines w0.2: -6.875,-6.05 -6.875,-6.985 6.875,-6.985 6.875,-6.05 ; -6.875,6.05 -6.875,6.985 6.875,6.985 6.875,6.05
Top Designator:
  text ".Designator" at -7.498,-0.5 h1.5
Top Component Outline:
  circle w0.1: c-5.75,5.86 r0.5
  lines w0.1: -6.75,-5.65 -7.43,-5.65 -7.43,-5.24 -6.75,-5.24 ; -6.75,-4.66 -7.43,-4.66 -7.43,-4.25 -6.75,-4.25 ; -6.75,-3.67 -7.43,-3.67 -7.43,-3.26 -6.75,-3.26 ; -6.75,-2.68 -7.43,-2.68 -7.43,-2.27 -6.75,-2.27 ; -6.75,-1.69 -7.43,-1.69 -7.43,-1.28 -6.75,-1.28 ; -6.75,-0.7 -7.43,-0.7 -7.43,-0.29 -6.75,-0.29 ; -6.75,0.29 -7.43,0.29 -7.43,0.7 -6.75,0.7 ; -6.75,1.28 -7.43,1.28 -7.43,1.69 -6.75,1.69 ; -6.75,2.27 -7.43,2.27 -7.43,2.68 -6.75,2.68 ; -6.75,3.26 -7.43,3.26 -7.43,3.67 -6.75,3.67 ; -6.75,4.25 -7.43,4.25 -7.43,4.66 -6.75,4.66 ; -6.75,5.24 -7.43,5.24 -7.43,5.65 -6.75,5.65 ; 6.75,-5.65 7.43,-5.65 7.43,-5.24 6.75,-5.24 ; 6.75,-4.66 7.43,-4.66 7.43,-4.25 6.75,-4.25 ; 6.75,-3.67 7.43,-3.67 7.43,-3.26 6.75,-3.26 ; 6.75,-2.68 7.43,-2.68 7.43,-2.27 6.75,-2.27 ; 6.75,-1.69 7.43,-1.69 7.43,-1.28 6.75,-1.28 ; 6.75,-0.7 7.43,-0.7 7.43,-0.29 6.75,-0.29 ; 6.75,0.29 7.43,0.29 7.43,0.7 6.75,0.7 ; 6.75,1.28 7.43,1.28 7.43,1.69 6.75,1.69 ; 6.75,2.27 7.43,2.27 7.43,2.68 6.75,2.68 ; 6.75,3.26 7.43,3.26 7.43,3.67 6.75,3.67 ; 6.75,4.25 7.43,4.25 7.43,4.66 6.75,4.66 ; 6.75,5.24 7.43,5.24 7.43,5.65 6.75,5.65 ; -6.75,-6.86 -6.75,6.86 6.75,6.86 6.75,-6.86 -6.75,-6.86
Top Courtyard:
  lines w0.05: -0.5,0 0.5,0 ; 0,-0.5 0,0.5 ; -7.82,-7.185 -7.82,7.185 7.82,7.185 7.82,-7.185 -7.82,-7.185
3D body "749053012.stp": height 6.6, standoff 0, extent -7.555,-6.985 7.555,6.985

## 749053013 [mm] "LAN-Transformer 10G, body 13.5x13.72mm, 24-leads"
height 6.6
pads (24):
  rect 1.14x0.64 smd: 1(-7.05,5.445) 2(-7.05,4.455) 3(-7.05,3.465) 4(-7.05,2.475) 5(-7.05,1.485) 6(-7.05,0.495) 7(-7.05,-0.495) 8(-7.05,-1.485) 9(-7.05,-2.475) 10(-7.05,-3.465) 11(-7.05,-4.455) 12(-7.05,-5.445) 13(7.05,-5.445) 14(7.05,-4.455) 15(7.05,-3.465) 16(7.05,-2.475) 17(7.05,-1.485) 18(7.05,-0.495) 19(7.05,0.495) 20(7.05,1.485) 21(7.05,2.475) 22(7.05,3.465) 23(7.05,4.455) 24(7.05,5.445)
Top Overlay:
  circle w0.25: c-8.05,5.445 r0.125
  lines w0.2: -6.875,-6.05 -6.875,-6.985 6.875,-6.985 6.875,-6.05 ; -6.875,6.05 -6.875,6.985 6.875,6.985 6.875,6.05
Top Designator:
  text ".Designator" at -7.498,-0.5 h1.5
Top Component Outline:
  circle w0.1: c-5.75,5.86 r0.5
  lines w0.1: -6.75,-5.65 -7.43,-5.65 -7.43,-5.24 -6.75,-5.24 ; -6.75,-4.66 -7.43,-4.66 -7.43,-4.25 -6.75,-4.25 ; -6.75,-3.67 -7.43,-3.67 -7.43,-3.26 -6.75,-3.26 ; -6.75,-2.68 -7.43,-2.68 -7.43,-2.27 -6.75,-2.27 ; -6.75,-1.69 -7.43,-1.69 -7.43,-1.28 -6.75,-1.28 ; -6.75,-0.7 -7.43,-0.7 -7.43,-0.29 -6.75,-0.29 ; -6.75,0.29 -7.43,0.29 -7.43,0.7 -6.75,0.7 ; -6.75,1.28 -7.43,1.28 -7.43,1.69 -6.75,1.69 ; -6.75,2.27 -7.43,2.27 -7.43,2.68 -6.75,2.68 ; -6.75,3.26 -7.43,3.26 -7.43,3.67 -6.75,3.67 ; -6.75,4.25 -7.43,4.25 -7.43,4.66 -6.75,4.66 ; -6.75,5.24 -7.43,5.24 -7.43,5.65 -6.75,5.65 ; 6.75,-5.65 7.43,-5.65 7.43,-5.24 6.75,-5.24 ; 6.75,-4.66 7.43,-4.66 7.43,-4.25 6.75,-4.25 ; 6.75,-3.67 7.43,-3.67 7.43,-3.26 6.75,-3.26 ; 6.75,-2.68 7.43,-2.68 7.43,-2.27 6.75,-2.27 ; 6.75,-1.69 7.43,-1.69 7.43,-1.28 6.75,-1.28 ; 6.75,-0.7 7.43,-0.7 7.43,-0.29 6.75,-0.29 ; 6.75,0.29 7.43,0.29 7.43,0.7 6.75,0.7 ; 6.75,1.28 7.43,1.28 7.43,1.69 6.75,1.69 ; 6.75,2.27 7.43,2.27 7.43,2.68 6.75,2.68 ; 6.75,3.26 7.43,3.26 7.43,3.67 6.75,3.67 ; 6.75,4.25 7.43,4.25 7.43,4.66 6.75,4.66 ; 6.75,5.24 7.43,5.24 7.43,5.65 6.75,5.65 ; -6.75,-6.86 6.75,-6.86 6.75,6.86 -6.75,6.86 -6.75,-6.86
Top Courtyard:
  lines w0.05: -0.5,0 0.5,0 ; 0,-0.5 0,0.5 ; -7.82,-7.185 -7.82,7.185 7.82,7.185 7.82,-7.185 -7.82,-7.185
3D body "749053013.stp": height 6.2, standoff 0, extent -7.45,-6.85 7.45,6.85